# EAGLE library part PTOP-12 (library con-amp_edit)
AMP connector
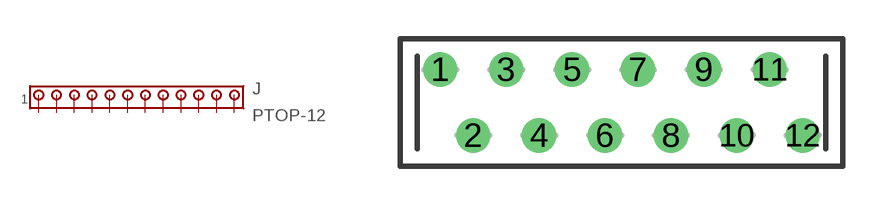
[diagram p153: symbol with the pads of PTOP-12; footprint PTOP-12]

Designator prefix J

## PTOP-12  [PTOP-12]
1  1  pas
2  2  pas
3  3  pas
4  4  pas
5  5  pas
6  6  pas
7  7  pas
8  8  pas
9  9  pas
10  10  pas
11  11  pas
12  12  pas

## Footprint PTOP-12 (pad centres in mm)
AMP connector
drill 0.813: 1 -6.985,1.27; 2 -5.715,-1.27; 3 -4.445,1.27; 4 -3.175,-1.27; 5 -1.905,1.27; 6 -0.635,-1.27; 7 0.635,1.27; 8 1.905,-1.27; 9 3.175,1.27; 10 4.445,-1.27; 11 5.715,1.27; 12 6.985,-1.27